# Altium footprint library Flyback_PcbLib.PcbLib: 23 footprints (part 1 of 2)
Each footprint in its own frame and in the unit in brackets; x right, y up, seen from the top. Pads: shape width x height; smd on the part's side, far side on the other; paste and mask are expansions set on the pad; w line width, h text height; cw(c..) or ccw(c..) is an arc to the next point about the centre after c.
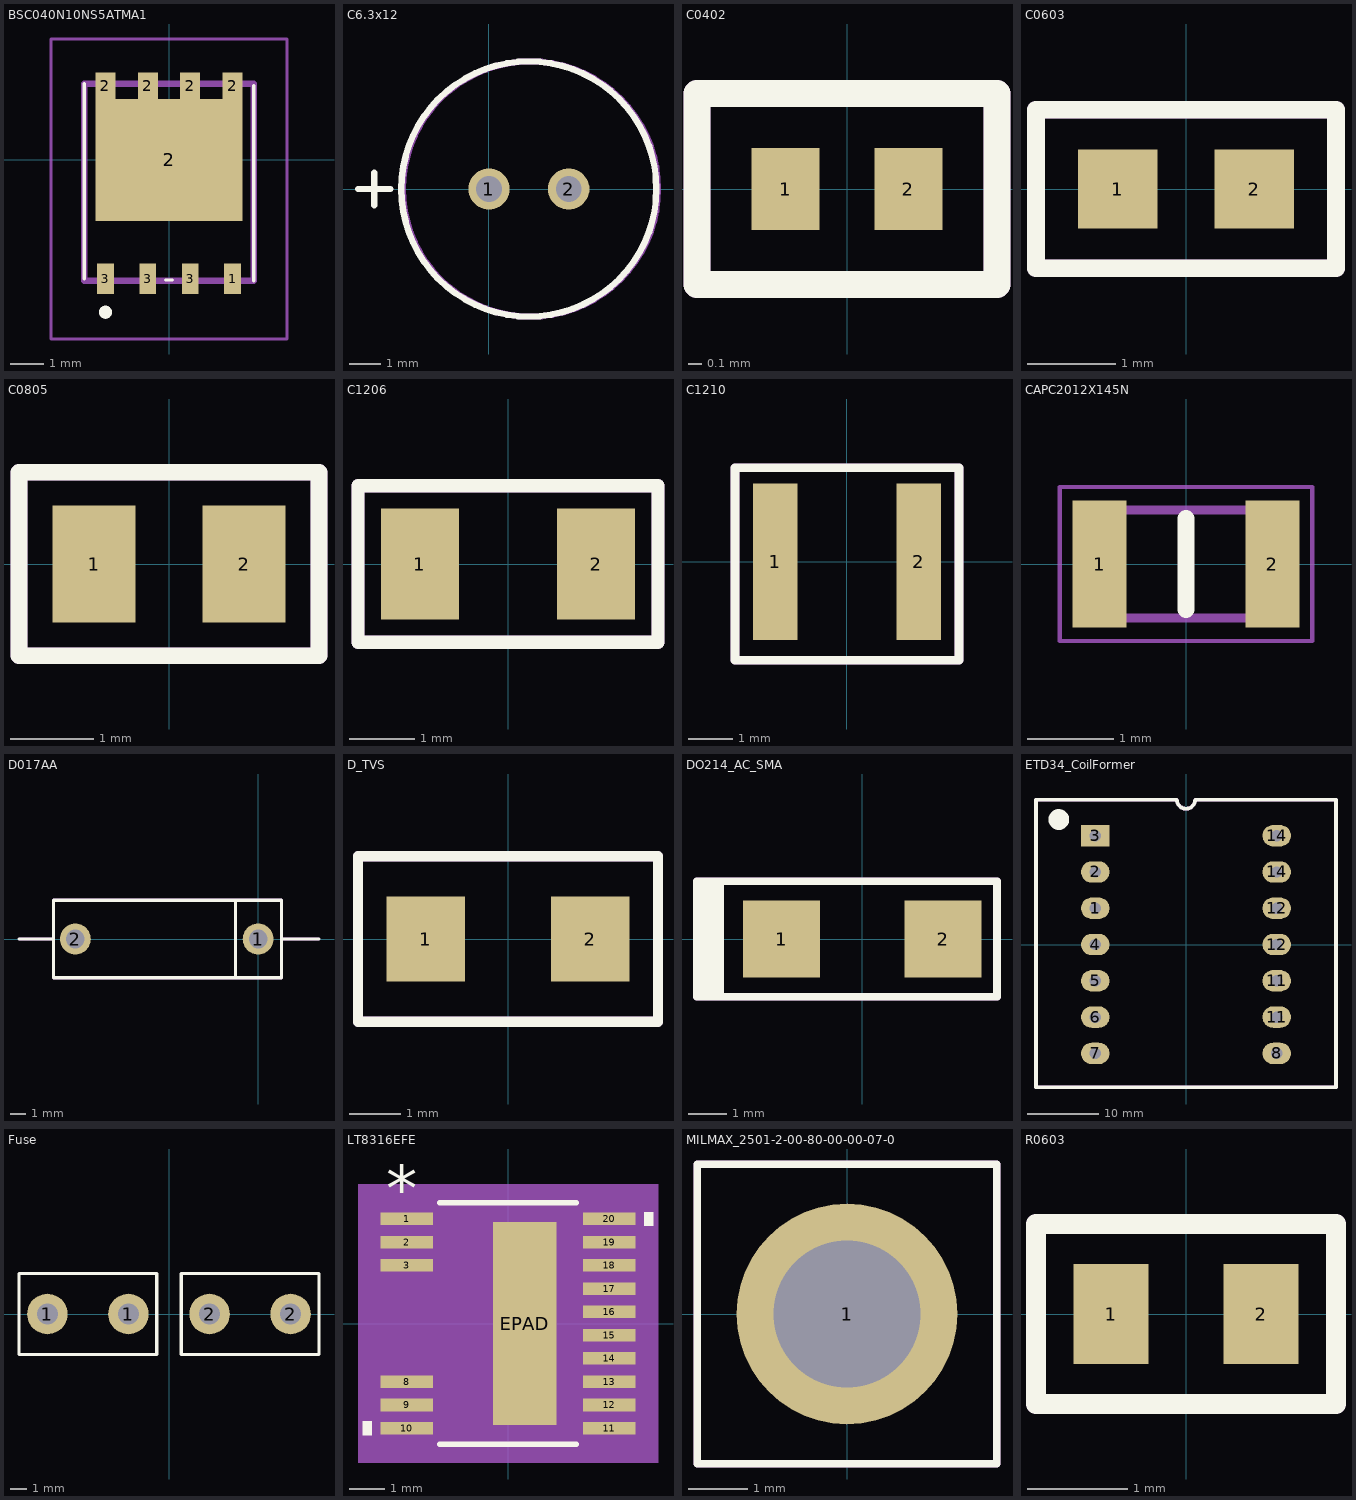
[diagram p0: the footprints below, top view; thin cyan lines are the x and y axes]

## BSC040N10NS5ATMA1 [mm]
pads (9):
  rect 0.5x0.925 smd: 1(1.905,-3.561) 3(-1.905,-3.561) 3(-0.635,-3.561) 3(0.635,-3.561)
  rect 0.6x0.8 smd: 2(-1.905,2.227) 2(-0.635,2.227) 2(0.635,2.227) 2(1.905,2.227)
  rect 4.41x3.655 smd: 2(0,0)
Top Overlay:
  lines w0.1: -2.54,2.283 -2.537,-3.561 ; -0.1,-3.6 0.1,-3.6 ; 2.538,2.227 2.54,-3.617
  lines w0.2: -1.905,-4.661 cw(c-1.905,-4.564) -1.905,-4.467 cw(c-1.905,-4.564) -1.905,-4.661
Mechanical 13:
  lines w0.2: -2.537,-3.617 -2.537,2.283 2.538,2.283 2.538,-3.617 -2.537,-3.617
Mechanical 15:
  lines w0.1: -3.54,-5.367 -3.54,3.627 3.54,3.627 3.54,-5.367 -3.54,-5.367
3D body "BSC040N10NS5ATMA1.stp": height 1.3, standoff 0, extent -2.537,-3.973 2.538,2.567

## C6.3x12 [mm]
pads (2):
  round 1.3 hole 0.8: 1(0,0) 2(2.5,0)
Top Overlay:
  circle w0.2: c1.25,0 r4
  lines w0.2: -4.108,0 -3.092,0 ; -3.6,-0.508 -3.6,0.508
Mechanical 29 (Mech29):
  circle w0.2: c1.3,0 r4
  text "'.Designator'" at -2.5,-1.6 h0.7
3D body "A759EQ475M2AAAE160.step": height 13.01, standoff -18, extent -2.151,-3.4 4.65,3.415

## C0402 [mm]
pads (2):
  rect 0.5x0.6 smd: 1(-0.45,0) 2(0.45,0)
Top Overlay:
  lines w0.2: -1.1,-0.7 1.1,-0.7 1.1,0.7 -1.1,0.7 -1.1,-0.7
Mechanical 29 (Mech29):
  lines w0.2: -1.1,-0.7 1.1,-0.7 1.1,0.7 -1.1,0.7 -1.1,-0.7
  text "'.Designator'" at -0.9,-0.7 h0.7
3D body "GRM155R71E104KE14J.STEP": height 0.56, standoff 0.01, extent -0.5,-0.25 0.5,0.25

## C0603 [mm]
pads (2):
  rect 0.9x0.9 smd: 1(-0.775,0) 2(0.775,0)
Top Overlay:
  lines w0.2: -1.7,-0.9 1.7,-0.9 1.7,0.9 -1.7,0.9 -1.7,-0.9
Mechanical 29 (Mech29):
  lines w0.2: -1.7,-0.9 1.7,-0.9 1.7,0.9 -1.7,0.9 -1.7,-0.9
  text "'.Designator'" at -1.2,-0.7 h0.7
3D body "GRM1885C2A470JA01D.STEP": height 0.91, standoff 0.01, extent -0.8,-0.4 0.8,0.4

## C0805 [mm]
pads (2):
  rect 1x1.4 smd: 1(-0.9,0) 2(0.9,0)
Top Overlay:
  lines w0.2: -1.8,-1.1 -1.8,1.1 1.8,1.1 1.8,-1.1 -1.8,-1.1
Mechanical 29 (Mech29):
  lines w0.2: -1.8,-1.1 -1.8,1.1 1.8,1.1 1.8,-1.1 -1.8,-1.1
  text "'.Designator'" at -1.4,-0.7 h0.7
3D body "GRM219R61E475MA73D.STEP": height 0.96, standoff 0.01, extent -1,-0.625 1,0.625

## C1206 [mm]
pads (2):
  rect 1.2x1.7 smd: 1(-1.35,0) 2(1.35,0)
Top Overlay:
  lines w0.2: -2.3,-1.2 2.3,-1.2 2.3,1.2 -2.3,1.2 -2.3,-1.2
Mechanical 29 (Mech29):
  lines w0.2: -2.3,-1.2 2.3,-1.2 2.3,1.2 -2.3,1.2 -2.3,-1.2
  text "'.Designator'" at -2.1,-1.1 h0.7
3D body "GRM31A5C2J101JW01D.STEP": height 1.01, standoff 0.01, extent -1.6,-0.8 1.6,0.8

## C1210 [mm]
pads (2):
  rect 1x3.5 smd: 1(-1.6,0) 2(1.6,0)
Top Overlay:
  lines w0.2: -2.5,-2.2 -2.5,2.1 2.5,2.1 2.5,-2.2 -2.5,-2.2
Mechanical 29 (Mech29):
  lines w0.2: -2.5,-2.2 -2.5,2.1 2.5,2.1 2.5,-2.2 -2.5,-2.2
  text "'.Designator'" at -2.4,-1.7 h0.7
3D body "C1210C154KCRAC7800.STEP": height 2.31, standoff 0.01, extent -1.6,-1.25 1.6,1.25

## CAPC2012X145N [mm]
pads (2):
  rect 0.62x1.47 smd: 1(-1,0) 2(1,0)
Top Overlay:
  lines w0.2: 0,-0.525 0,0.525
Mechanical 13:
  lines w0.1: -1,-0.625 1,-0.625 1,0.625 -1,0.625 -1,-0.625
Mechanical 15:
  lines w0.05: -1.46,-0.89 1.46,-0.89 1.46,0.89 -1.46,0.89 -1.46,-0.89
3D body "CGA4J3X7R1A475K125AB.stp": height 1.45, standoff 0, extent -1,-0.625 1,0.625

## D017AA [mm]
pads (2):
  round 2 hole 1.2: 1(0,0) 2(-11.8,0)
Top Overlay:
  lines w0.2: -15.438,0 -13.313,0 ; -1.458,-2.5 -1.458,2.5 ; 1.6,0 3.925,0 ; -13.2,-2.5 -13.2,2.5 1.5,2.5 1.5,-2.5 -13.2,-2.5
Mechanical 29 (Mech29):
  lines w0.2: -15.438,0 -13.313,0 ; -1.458,-2.5 -1.458,2.5 ; 1.6,0 3.925,0 ; -13.2,-2.5 -13.2,2.5 1.5,2.5 1.5,-2.5 -13.2,-2.5
  text "'.Designator'" at -12.5,-2.3 h1.2
3D body "User Library-Diode Case 017AA.STEP": height 3.9, standoff -2.5, extent -12.4,-1.7 0.6,1.7

## D_TVS [mil]
pads (2):
  rect 60x65 smd: 1(-62.66,0) 2(62.66,0)
Top Overlay:
  lines w7.87: -114.17,-62.99 -114.17,62.99 114.17,62.99 114.17,-62.99 -114.17,-62.99
Mechanical 29 (Mech29):
  lines w7.87: -114.17,-62.99 -114.17,62.99 114.17,62.99 114.17,-62.99 -114.17,-62.99
  text ".Designator" at -70.87,-6.56 h27.56
3D body "P4SMASeries_LTF.step": height 92.01, standoff 0, extent -104.01,-54.99 104.02,55

## DO214_AC_SMA [mm]
pads (2):
  rect 2x2 smd: 1(-2.1,0) 2(2.1,0)
Top Overlay:
  rectangle: -4.3,-1.5 -3.6,1.5
  lines w0.2: -4.3,-1.5 3.5,-1.5 3.5,1.5 -4.3,1.5 -4.3,-1.5
Mechanical 29 (Mech29):
  rectangle: -4.3,-1.5 -3.6,1.5
  lines w0.2: -4.3,-1.5 3.5,-1.5 3.5,1.5 -4.3,1.5 -4.3,-1.5
  text "'.Designator'" at -3.1,-1.3 h0.7
3D body "User Library-DO-214AC SMA.step": height 2.42, standoff 0.01, extent -2.6,-1.3 2.6,1.3

## ETD34_CoilFormer [mm]
pads (14):
  oval 4x3 hole 1.6: 1(-12.7,5.08) 2(-12.7,10.16) 4(-12.7,0) 5(-12.7,-5.08) 6(-12.7,-10.16) 7(-12.7,-15.24) 8(12.7,-15.24) 11(12.7,-10.16) 11(12.7,-5.08) 12(12.7,0) 12(12.7,5.08) 14(12.7,10.16) 14(12.7,15.24)
  rect 4x3 hole 1.6: 3(-12.7,15.24)
Top Overlay:
  circle w1.5: c-17.8,17.5 r0.7
  lines w0.5: -21,-20 21,-20 21,20.28 1.27,20.28 cw(c0,20.28) -1.27,20.28 -21,20.28 -21,-20
Mechanical 29 (Mech29):
  lines w0.5: -21,-20 21,-20 21,20.28 1.27,20.28 cw(c0,20.28) -1.27,20.28 -21,20.28 -21,-20
  text "'.Designator'" at 36.25,-24.05 h4
3D body "User Library-ETD34.STEP": height 32.91, standoff -2.42, extent -20.5,-19.8 20.5,19.8

## Fuse [mm]
pads (4):
  round 2.5 hole 1.3: 1(-7.5,0) 1(-2.5,0) 2(2.5,0) 2(7.5,0)
Top Overlay:
  lines w0.2: -9.25,-2.5 -9.25,2.5 -7.5,2.5 -2.5,2.5 -0.75,2.5 -0.75,-2.5 -2.5,-2.5 -7.5,-2.5 -9.25,-2.5 ; 0.75,-2.5 0.75,2.5 2.5,2.5 7.5,2.5 9.25,2.5 9.25,-2.5 7.5,-2.5 2.5,-2.5 0.75,-2.5
3D body "0751.0110_1.STEP": height 8.91, standoff -3.19, extent -8.1,-2.8 -1.95,2.8
3D body "0751.0110_1.STEP": height 8.91, standoff -3.19, extent 1.95,-2.8 8.1,2.8

## LT8316EFE [mm]
pads (17):
  rect 1.461x0.351 smd paste+0 mask+0: 1(-2.825,2.925) 2(-2.825,2.275) 3(-2.825,1.625) 8(-2.825,-1.625) 9(-2.825,-2.275) 10(-2.825,-2.925) 11(2.825,-2.925) 12(2.825,-2.275) 13(2.825,-1.625) 14(2.825,-0.975) 15(2.825,-0.325) 16(2.825,0.325) 17(2.825,0.975) 18(2.825,1.625) 19(2.825,2.275) 20(2.825,2.925)
  rect 1.78x5.68 smd paste-2.827 mask+0: EPAD(0.47,0)
Top Overlay:
  region: -3.81,-2.734 -4.064,-2.734 -4.064,-3.115 -3.81,-3.115
  region: 3.81,3.115 4.064,3.115 4.064,2.734 3.81,2.734
  lines w0.152: -1.909,-3.377 1.909,-3.377 ; -1.909,3.377 1.909,3.377
  text "*" at -3.397,3.149 h1.27
Top Paste:
  region: 1.26,2.74 -0.32,2.74 -0.32,1.52 1.26,1.52
  region: 1.26,1.32 -0.32,1.32 -0.32,0.1 1.26,0.1
  region: 1.26,-0.1 -0.32,-0.1 -0.32,-1.32 1.26,-1.32
  region: 1.26,-1.52 -0.32,-1.52 -0.32,-2.74 1.26,-2.74
Mechanical 5:
  region: 4.191,-3.885 -4.191,-3.885 -4.191,3.885 4.191,3.885
Mechanical 13:
  lines w0: -0.305,3.25 ccw(c0,3.25) 0.305,3.25
  lines w0.025: -3.2,-3.075 -3.2,-2.775 -2.2,-2.775 -2.2,-3.075 -3.2,-3.075 ; -3.2,-2.425 -3.2,-2.125 -2.2,-2.125 -2.2,-2.425 -3.2,-2.425 ; -3.2,-1.775 -3.2,-1.475 -2.2,-1.475 -2.2,-1.775 -3.2,-1.775 ; -3.2,1.475 -3.2,1.775 -2.2,1.775 -2.2,1.475 -3.2,1.475 ; -3.2,2.125 -3.2,2.425 -2.2,2.425 -2.2,2.125 -3.2,2.125 ; -3.2,2.775 -3.2,3.075 -2.2,3.075 -2.2,2.775 -3.2,2.775 ; -2.2,-3.25 2.2,-3.25 2.2,3.25 -2.2,3.25 -2.2,-3.25 ; 2.2,-3.075 2.2,-2.775 3.2,-2.775 3.2,-3.075 2.2,-3.075 ; 2.2,-2.425 2.2,-2.125 3.2,-2.125 3.2,-2.425 2.2,-2.425 ; 2.2,-1.775 2.2,-1.475 3.2,-1.475 3.2,-1.775 2.2,-1.775 ; 2.2,-1.125 2.2,-0.825 3.2,-0.825 3.2,-1.125 2.2,-1.125 ; 2.2,-0.475 2.2,-0.175 3.2,-0.175 3.2,-0.475 2.2,-0.475 ; 2.2,0.175 2.2,0.475 3.2,0.475 3.2,0.175 2.2,0.175 ; 2.2,0.825 2.2,1.125 3.2,1.125 3.2,0.825 2.2,0.825 ; 2.2,1.475 2.2,1.775 3.2,1.775 3.2,1.475 2.2,1.475 ; 2.2,2.125 2.2,2.425 3.2,2.425 3.2,2.125 2.2,2.125 ; 2.2,2.775 2.2,3.075 3.2,3.075 3.2,2.775 2.2,2.775
  text "*" at -2.137,1.904 h1.27
3D body: height 0.25, standoff 0, extent 0,0 0.254,0.254
3D body "TSSOP_20_ADI.step": height 1.01, standoff -0.19, extent -3.2,-3.302 3.2,3.302

## MILMAX_2501-2-00-80-00-00-07-0 [mm]
pads (1):
  round 3.74 hole 2.49: 1(0,0)
Top Overlay:
  lines w0.127: -2.54,-2.54 -2.54,2.54 2.54,2.54 2.54,-2.54 -2.54,-2.54
Mechanical 29 (Mech29):
  lines w0.127: -2.54,-2.54 -2.54,2.54 2.54,2.54 2.54,-2.54 -2.54,-2.54
  text "'.Designator'" at -2.3,0.8 h0.7
3D body "2501-2-00-80-00-00-07-0--3DModel-STEP-56544.STEP": height 5.58, standoff -2.76, extent -1.587,-1.587 1.587,1.588

## R0603 [mm]
pads (2):
  rect 0.75x1 smd: 1(-0.75,0) 2(0.75,0)
Top Overlay:
  lines w0.2: -1.5,-0.9 -1.5,0.9 1.5,0.9 1.5,-0.9 -1.5,-0.9
Mechanical 29 (Mech29):
  lines w0.2: -1.5,-0.9 -1.5,0.9 1.5,0.9 1.5,-0.9 -1.5,-0.9
  text "'.Designator'" at -1.1,-0.7 h0.7
3D body "User Library-CR1608-0603.step": height 0.46, standoff 0.01, extent -0.8,-0.4 0.8,0.4